# Altium footprint library TMDE_REV1.0.PcbLib: 84 footprints (part 1 of 6)
Each footprint in its own frame and in the unit in brackets; x right, y up, seen from the top. Pads: shape width x height; smd on the part's side, far side on the other; paste and mask are expansions set on the pad; w line width, h text height; cw(c..) or ccw(c..) is an arc to the next point about the centre after c.
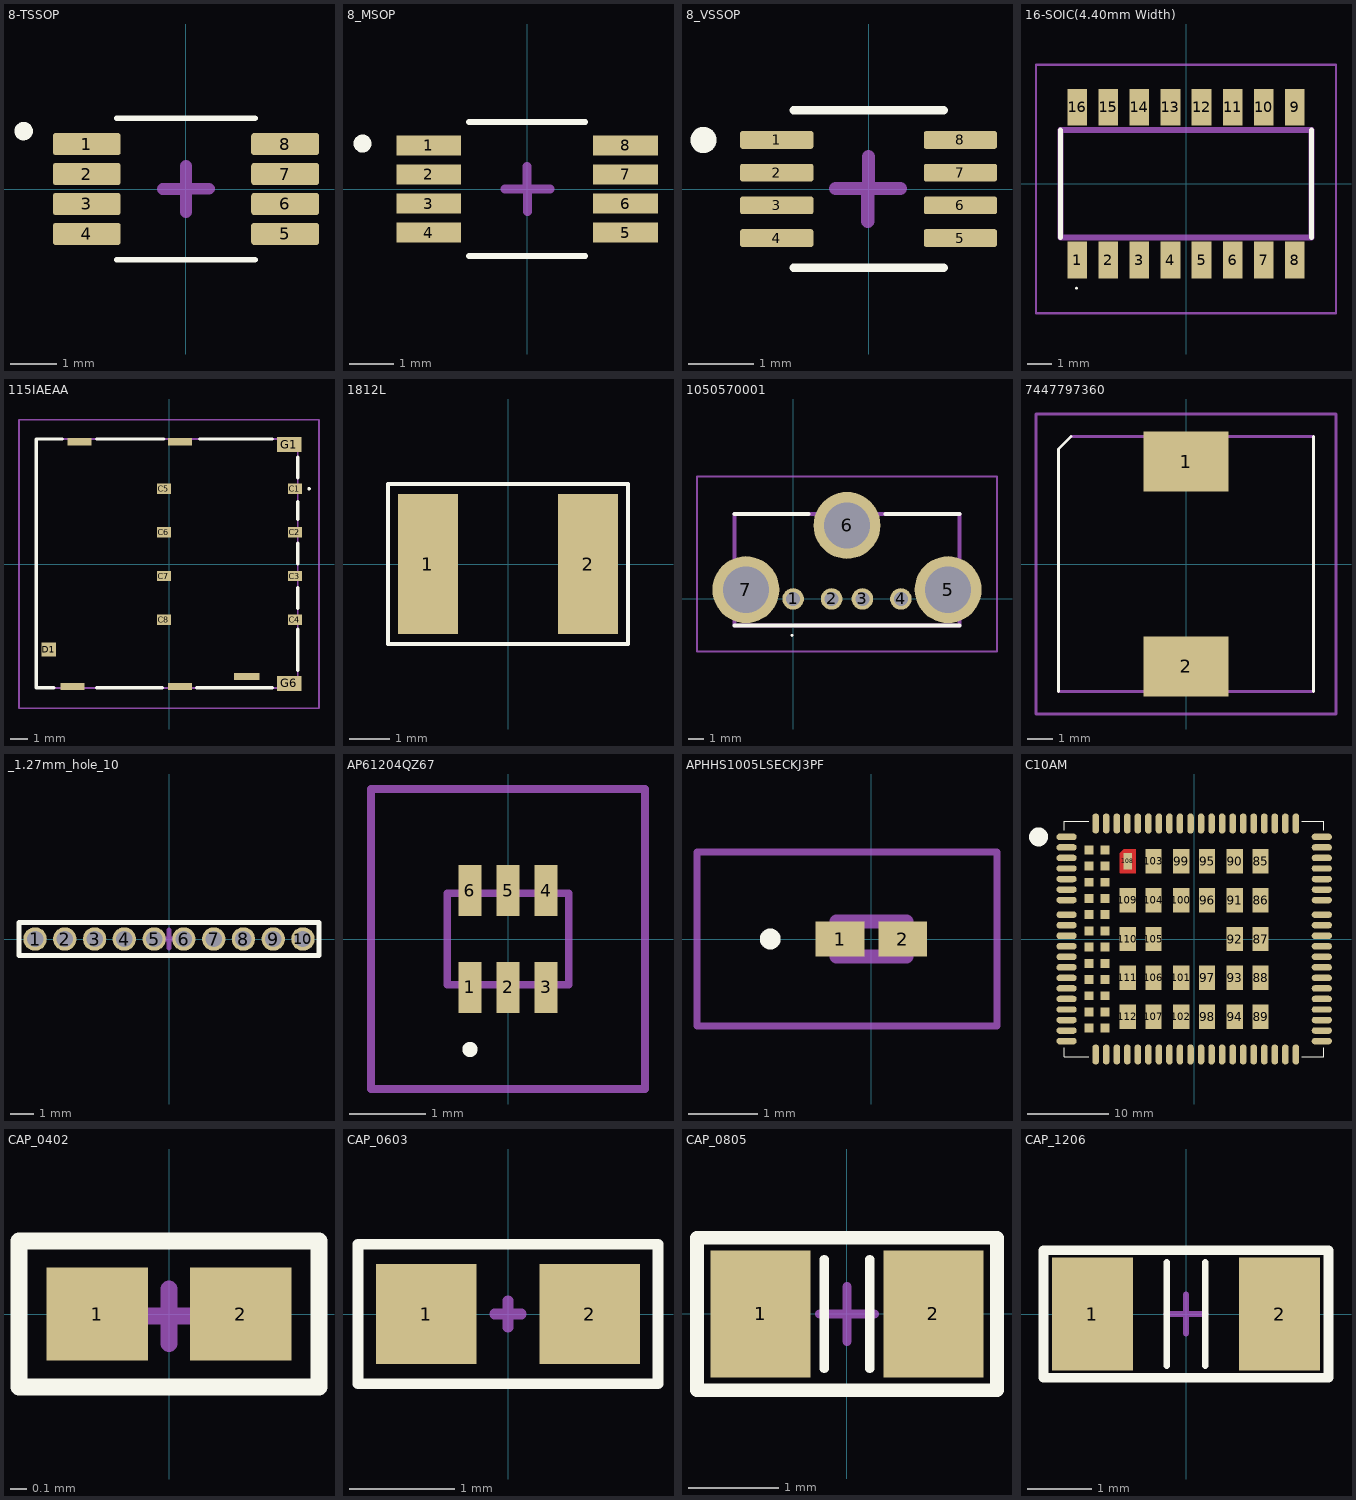
[diagram p0: the footprints below, top view; thin cyan lines are the x and y axes]

## 8-TSSOP [mm]
pads (8):
  rrect25% 1.47x0.48 smd: 1(-2.15,0.975) 2(-2.15,0.325) 3(-2.15,-0.325) 4(-2.15,-0.975) 5(2.15,-0.975) 6(2.15,-0.325) 7(2.15,0.325) 8(2.15,0.975)
Top Overlay:
  circle w0.2: c-3.52,1.255 r0.1
  lines w0.127: -1.5,-1.535 1.5,-1.535 ; -1.5,1.535 1.5,1.535
Mechanical 16:
  lines w0.254: -0.5,0 0,0 0,0.5 ; -0.001,-0.497 -0.001,0.003 0.499,0.003
3D body "PCA9536DGKR.STEP": height 1.1, standoff 0, extent -2.45,-1.497 2.45,1.503

## 8_MSOP [mm]
pads (8):
  rect 1.45x0.45 smd: 1(-2.2,0.975) 2(-2.2,0.325) 3(-2.2,-0.325) 4(-2.2,-0.975) 5(2.2,-0.975) 6(2.2,-0.325) 7(2.2,0.325) 8(2.2,0.975)
Top Overlay:
  circle w0.2: c-3.683,1.016 r0.1
  lines w0.127: -1.3,-1.5 1.3,-1.5 ; -1.3,1.5 1.3,1.5
Mechanical 16:
  lines w0.2: -0.5,0 0,0 0,0.5 ; 0.01,-0.503 0.01,-0.003 0.51,-0.003
3D body "MSOP_8.STEP": height 1.1, standoff 0, extent -2.323,-1.5 2.577,1.5

## 8_VSSOP [mm]
pads (8):
  rrect25% 1.12x0.27 smd: 1(-1.405,0.75) 2(-1.405,0.25) 3(-1.405,-0.25) 4(-1.405,-0.75) 5(1.405,-0.75) 6(1.405,-0.25) 7(1.405,0.25) 8(1.405,0.75)
Top Overlay:
  circle w0.2: c-2.525,0.75 r0.1
  lines w0.127: -1.15,-1.205 1.15,-1.205 ; -1.15,1.205 1.15,1.205
Mechanical 16:
  lines w0.2: -0.508,0.007 -0.008,0.007 ; -0.013,-0.493 -0.013,0.007 0.487,0.007 ; 0,0 0,0.5
3D body "step_temp.STEP": height 0.9, standoff 0, extent -1.55,-1 1.55,1

## 16-SOIC(4.40mm Width) [mm]
pads (16):
  rect 0.8x1.5 smd: 1(-4.445,-3.125) 2(-3.175,-3.125) 3(-1.905,-3.125) 4(-0.635,-3.125) 5(0.635,-3.125) 6(1.905,-3.125) 7(3.175,-3.125) 8(4.445,-3.125) 9(4.445,3.125) 10(3.175,3.125) 11(1.905,3.125) 12(0.635,3.125) 13(-0.635,3.125) 14(-1.905,3.125) 15(-3.175,3.125) 16(-4.445,3.125)
Top Overlay:
  lines w0.061: -4.507,-4.278 ccw(c-4.477,-4.278) -4.447,-4.278 ccw(c-4.477,-4.278) -4.507,-4.278
  lines w0.2: -5.14,-2.2 -5.14,2.2 ; 5.14,-2.2 5.14,2.2
Mechanical 13:
  lines w0.254: -5.14,-2.2 5.14,-2.2 5.14,2.2 -5.14,2.2 -5.14,-2.2
Mechanical 15:
  lines w0.1: -6.14,-5.308 6.14,-5.308 6.14,4.875 -6.14,4.875 -6.14,-5.308
3D body "LTV-247.stp": height 2.12, standoff 0, extent -5.14,-3.52 5.14,3.48

## 115IAEAA [mm]
pads (16):
  rect 0.8x0.6 smd: C1(7.325,4.38) C2(7.325,1.84) C3(7.325,-0.7) C4(7.325,-3.24) C5(-0.295,4.38) C6(-0.295,1.84) C7(-0.295,-0.7) C8(-0.295,-3.24)
  rect 0.85x0.8 smd: D1(-7.005,-4.98)
  rect 1.5x0.4 smd: D2(4.525,-6.54)
  rect 1.4x0.87 smd: G1(6.995,6.95) G6(6.995,-6.95)
  rect 1.4x0.42 smd: G2(0.645,7.11) G3(-5.205,7.11) G4(-5.615,-7.12) G5(0.645,-7.12)
Top Overlay:
  lines w0.1: 8.1,4.38 cw(c8.15,4.38) 8.2,4.38 cw(c8.15,4.38) 8.1,4.38
  lines w0.2: -6.705,-7.21 -7.725,-7.21 -7.725,7.27 -6.2,7.27 ; -4.2,-7.21 -0.4,-7.21 ; -4.2,7.27 -0.295,7.27 ; 1.6,-7.21 6,-7.21 ; 1.8,7.27 6,7.27 ; 7.495,-6.185 7.495,-3.785 ; 7.495,-2.585 7.495,-1.385 ; 7.495,0.015 7.495,1.215 ; 7.495,2.615 7.495,3.615 ; 7.495,5.015 7.495,6.215
Mechanical 13:
  lines w0.1: -7.725,-7.21 7.495,-7.21 7.495,7.27 -7.725,7.27 -7.725,-7.21
Mechanical 15:
  lines w0.1: -8.725,-8.385 8.725,-8.385 8.725,8.385 -8.725,8.385 -8.725,-8.385
3D body "115I-AEAA.stp": height 1.62, standoff 0, extent -7.725,-7.298 7.665,7.298

## 1812L [mm]
pads (2):
  rect 1.5x3.5 smd: 1(-2,0) 2(2,0)
Top Overlay:
  lines w0.1: -3,-2 -3,2 3,2 3,-2 -3,-2
3D body "user library-1812l.step": height 1.34, standoff 0, extent -2.365,-1.705 2.365,1.705

## 1050570001 [mm]
pads (7):
  round 1.4 hole 0.9: 1(0,0) 2(2.5,0) 3(4.5,0) 4(7,0)
  round 4.35 hole 3: 5(10.07,0.6) 6(3.5,4.78) 7(-3.07,0.6)
Top Overlay:
  lines w0.092: -0.124,-2.369 cw(c-0.078,-2.369) -0.032,-2.369 cw(c-0.078,-2.369) -0.124,-2.369
  lines w0.254: -3.815,-1.725 10.815,-1.725 ; -3.815,5.525 1,5.525 ; 6,5.525 10.815,5.525
Mechanical 13:
  lines w0.254: -3.815,-1.725 -3.815,5.525 10.815,5.525 10.815,-1.725 -3.815,-1.725
Mechanical 15:
  lines w0.1: -6.245,-3.415 -6.245,7.955 13.245,7.955 13.245,-3.415 -6.245,-3.415
3D body "105057-0001.stp": height 10.29, standoff -4.01, extent -3.781,-1.847 10.893,5.437

## 7447797360 [mm]
pads (2):
  rect 3.4x2.4 smd: 1(0,4.1) 2(0,-4.1)
Top Overlay:
  lines w0.127: -5.1,-5.1 -5.1,4.6 -4.6,5.1 ; 5.1,-5.1 5.1,5.1
Mechanical 13:
  lines w0.127: -5.1,-5.1 5.1,-5.1 ; -4.6,5.1 5.1,5.1
Mechanical 15:
  lines w0.127: -6,-6 6,-6 6,6 -6,6 -6,-6
3D body "7447797820.stp": height 4.5, standoff 0, extent -5.1,-5.1 5.1,5.1

## _1.27mm_hole_10 [mm]
pads (10):
  round 1 hole 0.7: 1(-5.715,0) 2(-4.445,0) 3(-3.175,0) 4(-1.905,0) 5(-0.635,0) 6(0.635,0) 7(1.905,0) 8(3.175,0) 9(4.445,0) 10(5.715,0)
Top Overlay:
  lines w0.2: -6.4,-0.7 -6.4,0.7 6.4,0.7 6.4,-0.7 -6.4,-0.7
Mechanical 16:
  lines w0.2: -0.4,0 0,0 ; -0.002,-0.004 0.398,-0.004 ; 0,-0.4 0,0 ; 0,0.4 0,0

## AP61204QZ67 [mm]
pads (6):
  rect 0.3x0.67 smd: 1(-0.5,-0.635) 2(0,-0.635) 3(0.5,-0.635) 4(0.5,0.635) 5(0,0.635) 6(-0.5,0.635)
Top Overlay:
  lines w0.1: -0.5,-1.5 cw(c-0.5,-1.45) -0.5,-1.4 cw(c-0.5,-1.45) -0.5,-1.5
Mechanical 13:
  lines w0.1: -0.8,-0.6 -0.8,0.6 0.8,0.6 0.8,-0.6 -0.8,-0.6
Mechanical 15:
  lines w0.1: -1.8,-1.97 -1.8,1.97 1.8,1.97 1.8,-1.97 -1.8,-1.97
3D body "AP61204QZ6-7.stp": height 0.6, standoff 0, extent -0.8,-0.8 0.8,0.8

## APHHS1005LSECKJ3PF [mm]
pads (2):
  rect 0.7x0.5 smd: 1(-0.45,0) 2(0.45,0)
Top Overlay:
  lines w0.2: -1.5,0 ccw(c-1.45,0) -1.4,0 ; -1.5,0 cw(c-1.45,0) -1.4,0 ; -1.5,0 ccw(c-1.45,0) -1.4,0
Mechanical 13:
  lines w0.2: -0.5,-0.25 0.5,-0.25 0.5,0.25 -0.5,0.25 -0.5,-0.25
Mechanical 15:
  lines w0.1: -2.5,-1.25 1.8,-1.25 1.8,1.25 -2.5,1.25 -2.5,-1.25
3D body "APHHS1005LSECK_J3-PF.stp": height 0.5, standoff 0, extent -0.511,-0.251 0.491,0.251

## C10AM [mm]
pads (132):
  oval 2.5x0.8 smd paste-2: 1(-15.75,12.6) 2(-15.75,11.3) 3(-15.75,10) 4(-15.75,8.7) 5(-15.75,7.4) 6(-15.75,6.1) 7(-15.75,4.8) 8(-15.75,0.4) 9(-15.75,-0.9) 10(-15.75,-2.2) 11(-15.75,-3.5) 12(-15.75,-4.8) 13(-15.75,-6.1) 14(-15.75,-7.4) 15(-15.75,-8.7) 16(-15.75,-10) 17(-15.75,-11.3) 18(-15.75,-12.6) 37(15.75,-12.6) 38(15.75,-11.3) 39(15.75,-10) 40(15.75,-8.7) 41(15.75,-7.4) 42(15.75,-6.1) 43(15.75,-4.8) 44(15.75,-3.5) 45(15.75,-2.2) 46(15.75,-0.9) 47(15.75,0.4) 48(15.75,4.8) 49(15.75,6.1) 50(15.75,7.4) 51(15.75,8.7) 52(15.75,10) 53(15.75,11.3) 54(15.75,12.6) 141(-15.75,3) 142(-15.75,1.7) 143(15.75,1.7) 144(15.75,3)
  oval 0.8x2.5 smd paste-2: 19(-9.55,-14.25) 20(-8.25,-14.25) 21(-6.95,-14.25) 22(-5.65,-14.25) 23(-4.35,-14.25) 24(-3.05,-14.25) 25(-1.75,-14.25) 26(-0.45,-14.25) 27(0.85,-14.25) 28(2.15,-14.25) 29(3.45,-14.25) 30(4.75,-14.25) 31(6.05,-14.25) 32(7.35,-14.25) 33(8.65,-14.25) 34(9.95,-14.25) 35(11.25,-14.25) 36(12.55,-14.25) 55(12.55,14.25) 56(11.25,14.25) 57(9.95,14.25) 58(8.65,14.25) 59(7.35,14.25) 60(6.05,14.25) 61(4.75,14.25) 62(3.45,14.25) 63(2.15,14.25) 64(0.85,14.25) 65(-0.45,14.25) 66(-1.75,14.25) 67(-3.05,14.25) 68(-4.35,14.25) 69(-5.65,14.25) 70(-6.95,14.25) 71(-8.25,14.25) 72(-9.55,14.25) 113(-10.85,14.25) 114(-12.15,14.25) 115(-10.85,-14.25) 116(-12.15,-14.25)
  rect 2x3 smd paste-3: 85(8.2,9.6) 86(8.2,4.8) 87(8.2,0) 88(8.2,-4.8) 89(8.2,-9.6) 90(5,9.6) 91(5,4.8) 92(5,0) 93(5,-4.8) 94(5,-9.6) 95(1.6,9.6) 96(1.6,4.8) 97(1.6,-4.8) 98(1.6,-9.6) 99(-1.6,9.6) 100(-1.6,4.8) 101(-1.6,-4.8) 102(-1.6,-9.6) 103(-5,9.6) 104(-5,4.8) 105(-5,0) 106(-5,-4.8) 107(-5,-9.6) 109(-8.2,4.8) 110(-8.2,0) 111(-8.2,-4.8) 112(-8.2,-9.6)
  rect 1x2 smd paste-2 mask+0: 108(-8.2,9.6)
  rect 1.1x1.1 smd paste-2: 117(-11,11) 118(-11,9) 119(-11,7) 120(-11,5) 121(-11,3) 122(-11,1) 123(-11,-1) 124(-11,-3) 125(-11,-5) 126(-11,-7) 127(-11,-9) 128(-11,-11) 129(-13,11) 130(-13,9) 131(-13,7) 132(-13,5) 133(-13,3) 134(-13,1) 135(-13,-1) 136(-13,-3) 137(-13,-5) 138(-13,-7) 139(-13,-9) 140(-13,-11)
Top Layer:
  region: -7.2,8.1 -9.2,8.1 -9.2,10.6 -8.7,11.1 -7.2,11.1
Top Overlay:
  circle w1.7: c-19.2,12.6 r0.316
  lines w0.127: -16,-13.4 -16,-14.5 -13,-14.5 ; -16,13.4 -16,14.5 -13,14.5 ; 13.3,-14.5 16,-14.5 16,-13.4 ; 13.3,14.5 16,14.5 16,13.4
Top Paste:
  drawing of 228 lines, arcs and shapes, not listed
Top Solder:
  region: -7.1,8 -9.3,8 -9.3,10.7 -8.8,11.2 -7.1,11.2
3D body "step_temp.STEP": height 2.6, standoff 0, extent -16,-14.5 16,14.5

## CAP_0402 [mm]
pads (2):
  rect 0.6x0.55 smd mask+0.102: 1(-0.425,0) 2(0.425,0)
Top Overlay:
  lines w0.1: -0.889,-0.432 -0.889,0.432 0.889,0.432 0.889,-0.432 -0.889,-0.432
Mechanical 16:
  lines w0.1: -0.162,-0.012 0.163,-0.012 ; 0,-0.175 0,0.15
3D body "0402 cap.STEP": height 0.52, standoff 0, extent -0.5,-0.252 0.5,0.272

## CAP_0603 [mm]
pads (2):
  rect 0.95x0.95 smd mask+0.1: 1(-0.775,0) 2(0.775,0)
Top Overlay:
  lines w0.1: -1.422,-0.66 1.422,-0.66 1.422,0.66 -1.422,0.66 -1.422,-0.66
Mechanical 16:
  lines w0.1: -0.127,0 0,0 ; 0,-0.127 0,0 ; 0,0.127 0,0 ; 0.127,0 0,0
3D body "CAPC0603.STEP": height 0.8, standoff 0, extent -1.05,-0.508 1.05,0.521

## CAP_0805 [mm]
pads (2):
  rect 1.1x1.4 smd mask+0.05: 1(-0.95,0) 2(0.95,0)
Top Overlay:
  lines w0.1: -0.25,-0.6 -0.25,0.6 ; 0.25,-0.6 0.25,0.6
  lines w0.15: -1.651,-0.838 1.651,-0.838 1.651,0.838 -1.651,0.838 -1.651,-0.838
Mechanical 16:
  lines w0.1: -0.3,0 0.3,0 ; 0,-0.3 0,0.3
3D body "CAPC0805.STEP": height 0.9, standoff 0, extent -1.3,-0.678 1.3,0.678

## CAP_1206 [mm]
pads (2):
  rect 1.25x1.75 smd mask+0.05: 1(-1.45,0) 2(1.45,0)
Top Overlay:
  lines w0.1: -0.3,-0.8 -0.3,0.8 ; 0.3,-0.8 0.3,0.8
  lines w0.15: -2.21,-0.991 -2.21,0.991 2.21,0.991 2.21,-0.991 -2.21,-0.991
Mechanical 16:
  lines w0.1: -0.3,0 0.3,0 ; 0,-0.3 0,0.3
3D body "CAPC1206.STEP": height 1.3, standoff -0.01, extent -1.977,-0.976 1.977,0.976